# Altium footprint library Pcblib_20110825.Pcblib: 407 footprints (part 26 of 26)
Each footprint in its own frame and in the unit in brackets; x right, y up, seen from the top. Pads: shape width x height; smd on the part's side, far side on the other; paste and mask are expansions set on the pad; w line width, h text height; cw(c..) or ccw(c..) is an arc to the next point about the centre after c.
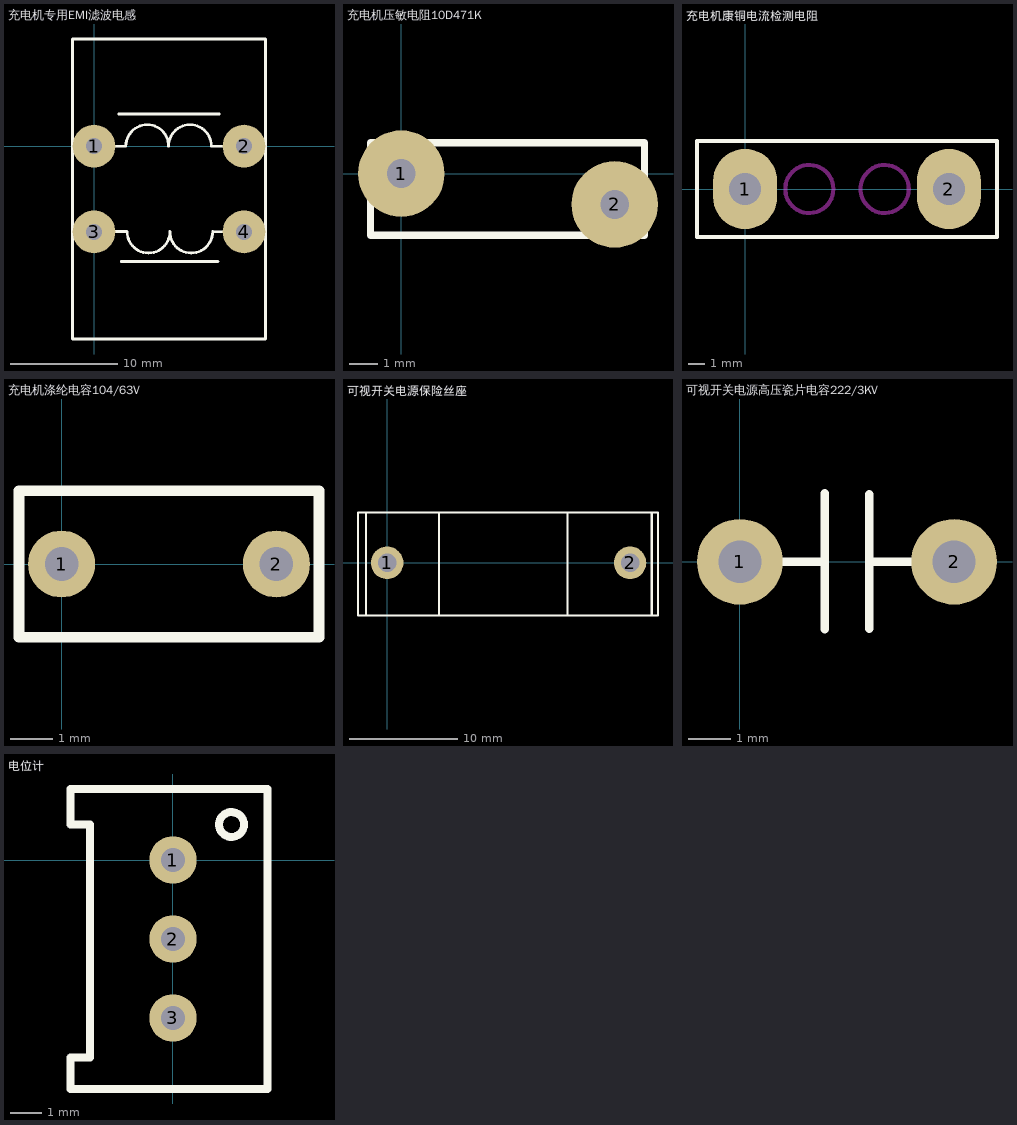
[diagram p25: the footprints below, top view; thin cyan lines are the x and y axes]

## 充电机专用EMI滤波电感 [mm]
height 1.55
pads (4):
  round 4 hole 1.5: 1(0,0) 2(14,0) 3(0,-8) 4(14,-8)
TopOverlay:
  lines w0.254: 1.194,-7.976 3.087,-7.976 ccw(c5.087,-7.976) 7.087,-7.976 ; 1.219,0 2.972,0 cw(c4.972,0) 6.972,0 ; 2.311,2.997 11.684,2.997 ; 2.54,-10.77 11.582,-10.77 ; 6.959,0 cw(c8.959,0) 10.959,0 12.852,0 ; 7.074,-7.976 ccw(c9.074,-7.976) 11.074,-7.976 ; 11.074,-8 12.827,-8 ; -2,-18 -2,10 16,10 16,-18 -2,-18

## 充电机压敏电阻10D471K [mm]
height 1.55
pads (2):
  round 3 hole 1: 1(0,0) 2(7.4,-1.07)
TopOverlay:
  lines w0.254: -1.067,-2.134 -1.067,0 -1.067,1.067 0,1.067 7.366,1.067 8.433,1.067 8.433,-2.134 7.366,-2.134 0,-2.134 -1.067,-2.134

## 充电机康铜电流检测电阻 [mm]
height 1.55
pads (2):
  oval 4x5 hole 2: 1(0,0) 2(12.7,0)
TopOverlay:
  lines w0.254: -3,-3 15.7,-3 15.7,3 -3,3 -3,-3
KeepOutLayer:
  circle w0.254: c8.7,0 r1.5
  circle w0.254: c4,0 r1.5

## 充电机涤纶电容104/63V [mm]
height 1.55
pads (2):
  round 1.6 hole 0.8: 1(0,0) 2(5.131,0)
TopOverlay:
  lines w0.254: -1.016,-1.753 0,-1.753 5.131,-1.753 6.147,-1.753 6.147,0 6.147,1.753 5.131,1.753 0,1.753 -1.016,1.753 -1.016,0 -1.016,-1.753

## 可视开关电源保险丝座 [mm]
height 1.55
pads (2):
  round 3 hole 1.7: 1(0,0) 2(22.4,0)
TopOverlay:
  lines w0.2: -1.947,-4.863 -1.947,4.641 ; 4.784,-4.842 4.784,4.62 ; 16.637,-4.842 16.637,4.62 ; 24.405,-4.8 24.405,4.641 ; -2.688,-4.863 -2.688,4.641 24.977,4.641 24.977,-4.863 -2.688,-4.863

## 可视开关电源高压瓷片电容222/3KV [mm]
height 1.55
pads (2):
  round 2 hole 1: 1(0,0) 2(5,0)
TopOverlay:
  lines w0.2: 0.965,0 1.939,0 ; 1.981,-1.575 1.981,1.6 ; 3.023,-1.558 3.023,1.575 ; 3.037,0 4.053,0
BottomOverlay:
  lines w0.2: 3.037,-1.704 3.037,-0.095

## 电位计 [mil]
pads (3):
  round 60 hole 30: 1(0,0) 2(0,-100) 3(0,-200)
TopOverlay:
  circle w10: c74.19,45 r15.81
  lines w10: -130,-290 120,-290 120,90 -130,90 -130,45 -105,45 -105,-250 -130,-250 -130,-290